# EAGLE library part 7P_0.5MM_ZIF_CONN (library CYCFI_Con)
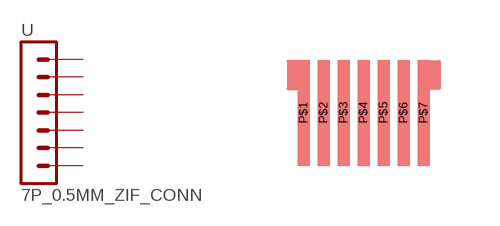
[diagram p21: symbol with the pads of 7P-0.5MMPITCH-ZIF; footprint 7P-0.5MMPITCH-ZIF]

Designator prefix -

## 7P_0.5MM_ZIF_CONN  [7P-0.5MMPITCH-ZIF]
P$1  1  pas
P$2  2  pas
P$3  3  pas
P$4  4  pas
P$5  5  pas
P$6  6  pas
P$7  7  pas

## Footprint 7P-0.5MMPITCH-ZIF (pad centres in mm)
smd 0.3 x 2.65: P$1 -1.5,0; P$2 -1,0; P$3 -0.5,0; P$4 0,0; P$5 0.5,0; P$6 1,0; P$7 1.5,0